# Altium footprint library 排线座.PcbLib: 7 footprints
Each footprint in its own frame and in the unit in brackets; x right, y up, seen from the top. Pads: shape width x height; smd on the part's side, far side on the other; paste and mask are expansions set on the pad; w line width, h text height; cw(c..) or ccw(c..) is an arc to the next point about the centre after c.
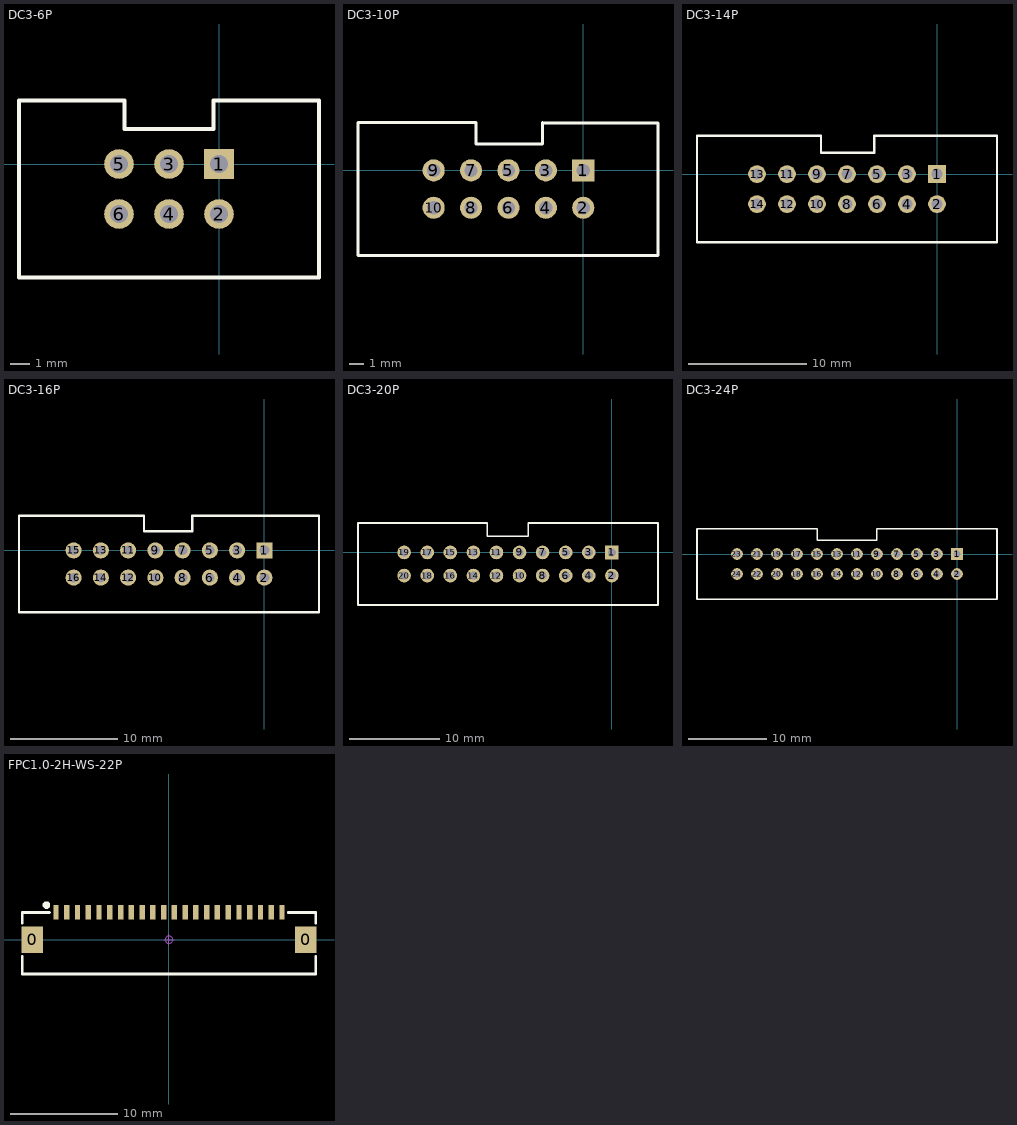
[diagram p0: the footprints below, top view; thin cyan lines are the x and y axes]

## DC3-6P [mm]
pads (6):
  rect 1.5x1.5 hole 0.9: 1(0,0)
  round 1.5 hole 0.9: 2(0,-2.54) 3(-2.54,0) 4(-2.54,-2.54) 5(-5.08,0) 6(-5.08,-2.54)
Top Overlay:
  lines w0.2: -10.16,-5.77 5.08,-5.77 5.08,3.23 -0.29,3.23 -0.29,1.78 -4.79,1.78 -4.79,3.23 -10.16,3.23 -10.16,-5.77

## DC3-10P [mm]
pads (10):
  rect 1.5x1.5 hole 0.9: 1(0,0)
  round 1.5 hole 0.9: 2(0,-2.54) 3(-2.54,0) 4(-2.54,-2.54) 5(-5.08,0) 6(-5.08,-2.54) 7(-7.62,0) 8(-7.62,-2.54) 9(-10.16,0) 10(-10.16,-2.54)
Top Overlay:
  lines w0.2: -15.3,3.23 -15.3,-5.77 5.08,-5.77 5.08,3.23 -2.77,3.23 ; -15.29,3.24 -7.28,3.24 -7.28,1.79 -2.78,1.79 -2.78,3.24

## DC3-14P [mm]
pads (14):
  rect 1.5x1.5 hole 0.9: 1(0,0)
  round 1.5 hole 0.9: 2(0,-2.54) 3(-2.54,0) 4(-2.54,-2.54) 5(-5.08,0) 6(-5.08,-2.54) 7(-7.62,0) 8(-7.62,-2.54) 9(-10.16,0) 10(-10.16,-2.54) 11(-12.7,0) 12(-12.7,-2.54) 13(-15.24,0) 14(-15.24,-2.54)
Top Overlay:
  lines w0.2: -20.32,3.23 -20.32,-5.77 5.08,-5.77 5.08,3.23 -5.31,3.23 ; -20.31,3.24 -9.82,3.24 -9.82,1.79 -5.32,1.79 -5.32,3.24

## DC3-16P [mm]
pads (16):
  rect 1.5x1.5 hole 0.9: 1(0,0)
  round 1.5 hole 0.9: 2(0,-2.54) 3(-2.54,0) 4(-2.54,-2.54) 5(-5.08,0) 6(-5.08,-2.54) 7(-7.62,0) 8(-7.62,-2.54) 9(-10.16,0) 10(-10.16,-2.54) 11(-12.7,0) 12(-12.7,-2.54) 13(-15.24,0) 14(-15.24,-2.54) 15(-17.78,0) 16(-17.78,-2.54)
Top Overlay:
  lines w0.2: -11.24,3.23 -22.86,3.23 -22.86,-5.77 5.08,-5.77 5.08,3.23 -6.72,3.23 -6.72,1.78 -11.22,1.78 -11.22,3.23

## DC3-20P [mm]
pads (20):
  rect 1.5x1.5 hole 0.9: 1(0,0)
  round 1.5 hole 0.9: 2(0,-2.54) 3(-2.54,0) 4(-2.54,-2.54) 5(-5.08,0) 6(-5.08,-2.54) 7(-7.62,0) 8(-7.62,-2.54) 9(-10.16,0) 10(-10.16,-2.54) 11(-12.7,0) 12(-12.7,-2.54) 13(-15.24,0) 14(-15.24,-2.54) 15(-17.78,0) 16(-17.78,-2.54) 17(-20.32,0) 18(-20.32,-2.54) 19(-22.86,0) 20(-22.86,-2.54)
Top Overlay:
  lines w0.2: -27.94,-5.77 -27.94,3.23 -13.71,3.23 -13.71,1.78 -9.21,1.78 -9.21,3.23 5.08,3.23 5.08,-5.77 -27.94,-5.77

## DC3-24P [mm]
pads (24):
  rect 1.5x1.5 hole 0.9: 1(0,0)
  round 1.5 hole 0.9: 2(0,-2.54) 3(-2.54,0) 4(-2.54,-2.54) 5(-5.08,0) 6(-5.08,-2.54) 7(-7.62,0) 8(-7.62,-2.54) 9(-10.16,0) 10(-10.16,-2.54) 11(-12.7,0) 12(-12.7,-2.54) 13(-15.24,0) 14(-15.24,-2.54) 15(-17.78,0) 16(-17.78,-2.54) 17(-20.32,0) 18(-20.32,-2.54) 19(-22.86,0) 20(-22.86,-2.54) 21(-25.4,0) 22(-25.4,-2.54) 23(-27.94,0) 24(-27.94,-2.54)
Top Overlay:
  lines w0.2: -17.74,3.22 -17.74,1.77 -10.2,1.77 ; -17.74,3.23 -33.02,3.23 -33.02,-5.77 5.08,-5.77 5.08,3.23 -10.2,3.23 -10.2,1.78

## FPC1.0-2H-WS-22P [mm] "翻盖FP"
height 1.75
pads (24):
  rect 2x2.5 smd: 0(-12.69,0) 0(12.69,0)
  rect 0.5x1.35 smd: 1(-10.5,2.575) 2(-9.5,2.575) 3(-8.5,2.575) 4(-7.5,2.575) 5(-6.5,2.575) 6(-5.5,2.575) 7(-4.5,2.575) 8(-3.5,2.575) 9(-2.5,2.575) 10(-1.5,2.575) 11(-0.5,2.575) 12(0.5,2.575) 13(1.5,2.575) 14(2.5,2.575) 15(3.5,2.575) 16(4.5,2.575) 17(5.5,2.575) 18(6.5,2.575) 19(7.5,2.575) 20(8.5,2.575) 21(9.5,2.575) 22(10.5,2.575)
Top Overlay:
  circle w0.5: c-11.389,3.21 r0.1
  lines w0.254: -13.636,-1.524 -13.636,-3.175 13.634,-3.175 13.634,-1.524 ; -13.636,1.524 -13.636,2.54 -11.096,2.54 ; 11.094,2.54 13.634,2.54 13.634,1.524
Mechanical 15:
  circle w0.05: c0,0 r0.35
  lines w0.05: -0.5,0 0.5,0 ; 0,-0.5 0,0.5